# Altium schematic symbol library schematic_components.SCHLIB: 11 symbols
Pins are listed as number, name and electrical type; pins without a type are passive.

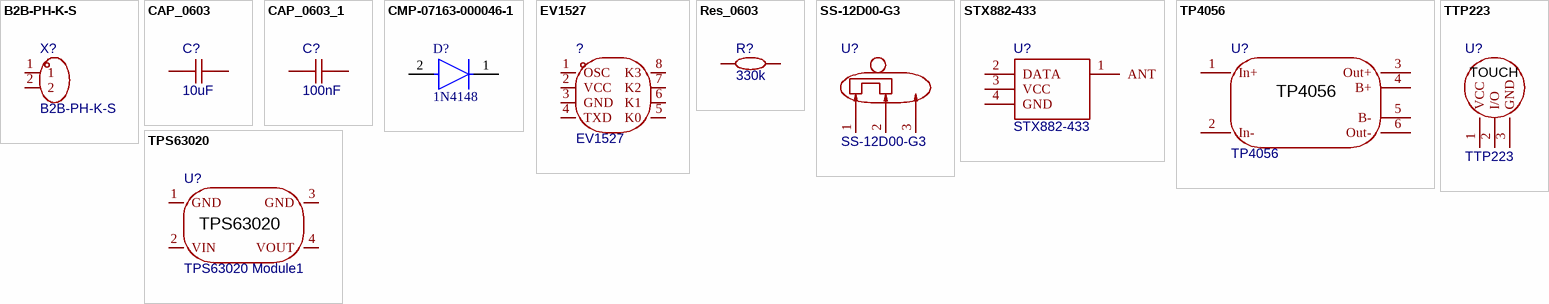
[diagram p0: symbols B2B-PH-K-S to TTP223]

## B2B-PH-K-S
designator X?
Pins Structure:1x2P Pitch:2mm Mounting Style:Direct Insert Reference Series:PH Number of Pins:2P Number of Rows:1 Number of PINs Per Row:2 Row Spacing:- Current Rating (Max):2A Contact Material:Brass Contact Plating:Tin Operating Temperature Range:-25℃~+8; Manufacturer: JST; AddInBom: yes; ModelId: 5cc63648eb1041ff813a836ee0942c91ÂŽ0819f05c4eef4c71ace90d822a990e87; ModelName: CONN-TH_PH2.00-LI-2P; ModelTransform: 236.25937,181.102,0,180,0,0,0,23.622,-137.795; Pins Structure: 1x2P; Pitch: 2mm; Reference Series: PH; Number of PINs Per Row: 2; Current Rating (Max): 2A; Rated Voltage (Max): 100V; Plastic Material: PA66; Flame Retardant Rating: UL94V-0; Supplementary Features: K-leg punch; Z-Height of the Board: 6mm; X-Length of Bottom Edge on Board (Spacing Line): 5.9mm; Y-Width of Bottom Edge on Board: 4.5mm; Symbol: B2B-PH-K-S; Device: B2B-PH-K-S; LCSC Part Name: 1x2P 间距:2mm 直插 系列:PH; SupplierPart: C20504437; ManufacturerPart: B2B-PH-K-S; Supplier Footprint: 插件,P=2mm; JLCPCB Part Class: Extended Part; Datasheet: https://atta.szlcsc.com/upload/public/pdf/source/20181010/C265101_22107ACC4D8714694FDA2DD97145FA81.pdf; Supplier: LCSC; ConvertToPcb: yes; FootprintName: CONN-TH_B2B-PH-K-S; Mounting Style: Direct Insert; Number of Pins: 2P; Number of Rows: 1; Row Spacing: -; Contact Material: Brass; Contact Plating: Tin; Operating Temperature Range: -25℃~+85℃; Colour: White
footprint CONN-TH_B2B-PH-K-S
pins: 1, 2

## CAP_0603
designator C?, comment 10uF
Symbol: CAP_OLD; Device: CAP_0603; ConvertToPcb: yes; ModelId: 624118aa3cc7497086c383c2d72e0852ÂŽ0819f05c4eef4c71ace90d822a990e87; ModelName: C0603_L1.6-W0.8-H0.8; ModelTransform: 62.992,31.496,0,0,0,0,0,0,0; Value: 10uF; AddInBom: yes; Supplier Footprint: 0603; FootprintName: C0603
footprint C0603
pins: 1, 2

## CAP_0603_1
designator C?, comment 100nF
Symbol: CAP_OLD; Device: CAP_0603; ConvertToPcb: yes; ModelId: 624118aa3cc7497086c383c2d72e0852ÂŽ0819f05c4eef4c71ace90d822a990e87; ModelName: C0603_L1.6-W0.8-H0.8; ModelTransform: 62.992,31.496,0,0,0,0,0,0,0; AddInBom: yes; Supplier Footprint: 0603; FootprintName: C0603; Value: 100nF
footprint C0603
pins: 1, 2

## CMP-07163-000046-1
designator D?, comment 1N4148
DIODE GEN PURP 100V 200MA DO35; Forward Voltage: 1V; Max Power Dissipation: 500mW; Max Reverse Current: 5uA; Forward Current: 300mA; Current: 4A; Reverse Recovery Time: 4ns; Element Configuration: Single; Outside Diameter: 1.85mm; Capacitance: 4pF; Polarity: Standard; Max Forward Surge Current (Ifsm): 1A; Reverse Voltage: 100V; Output Current: 200mA; Average Rectified Current: 200mA; Diameter: 1.91mm; Max Repetitive Reverse Voltage (Vrrm): 100V; Current Rating: 200mA; Case/Package: DO-35; Lead Free: Lead Free; Number of Pins: 2; Recovery Time: 4ns; Packaging: Bulk; Contact Plating: Tin; Voltage: 100V; Mount: Through Hole; Max Surge Current: 4A; Package Quantity: 2000; Width: 1.91mm; Max Reverse Voltage (DC): 100V; Length: 4.56mm; Radiation Hardening: No; Power Dissipation: 500mW; Voltage Rating (DC): 100V; Peak Non-Repetitive Surge Current: 4A; REACH SVHC: No SVHC; Height: 4.56mm; Max Operating Temperature: 175°C; Series: -; Weight: 0.01lb; Min Operating Temperature: -65°C
footprint FP-017AG-MFG
pins: 1 C, 2 A

## EV1527
designator ?
Symbol: EV1527_C2764439; AddInBom: yes; ModelId: 1637369e3845406d90068fbde42645d6ÂŽ0819f05c4eef4c71ace90d822a990e87; ModelName: SOP-8_L4.9-W3.9-H1.45-LS6.0-P1.27; ModelTransform: 236.22,189.751,0,0,0,0,-0.005,0.003,0; Device: EV1527; LCSC Part Name: EV1527; SupplierPart: C2764439; ManufacturerPart: EV1527; Supplier Footprint: SOP-8; JLCPCB Part Class: Extended Part; Supplier: LCSC; ConvertToPcb: yes; FootprintName: SOP-8_L4.9-W3.9-P1.27-LS6.0-TL
footprint SOP-8_L4.9-W3.9-P1.27-LS6.0-TL
pins: 1 OSC, 2 VCC, 3 GND, 4 TXD, 5 K0, 6 K1, 7 K2, 8 K3

## Res_0603
designator R?, comment 330k
Symbol: Res; Device: Res_0603; ConvertToPcb: yes; ModelId: 112863783b5b41f1b5254f87eedc7932ÂŽ0819f05c4eef4c71ace90d822a990e87; ModelName: R0603; ModelTransform: 31.8897,63.7794,0,90,0,0,0,0,0; Value: 330k; AddInBom: yes; Supplier Footprint: 0603; FootprintName: R0603
footprint R0603
pins: 1, 2

## SS-12D00-G3
designator U?
Circuit:SPDT Actuator Style:Rectangular Columnar Termination Style:PC Pin Length:8.8mm Width:3.9mm Switch Height:7.2mm Mounting Type:Through Hole Actuator Color:Black Operating Temperature:-35℃~+75℃ Operating Temperature:-35℃~+75℃; Manufacturer: SOFNG(硕方); AddInBom: yes; ModelId: 73abde54055d465790e8480c42fb2657ÂŽ0819f05c4eef4c71ace90d822a990e87; ModelName: SW-TH_3P-L8.8-W3.9-P2.50_SS12D00G3; ModelTransform: 346.495,153.54304,0,0,0,0,0,0,-102.362; Circuit: SPDT; Switch Height: 7.2mm; Actuator Color: Black; Symbol: SS-12D00-G3; Device: SS-12D00-G3; LCSC Part Name: 大型拨动开关; SupplierPart: C22355741; ManufacturerPart: SS-12D00-G3; Supplier Footprint: 插件-3P,8.8x3.9mm; JLCPCB Part Class: Extended Part; Datasheet: https://item.szlcsc.com/datasheet/SS-12D00-G3/23787622.html; Supplier: LCSC; ConvertToPcb: yes; FootprintName: SW-TH_3P-L8.8-W3.9-P2.50_SS12D00G3; Actuator Style: Rectangular Columnar; Termination Style: PC Pin; Length: 8.8mm; Width: 3.9mm; Mounting Type: Through Hole; Operating Temperature: -35℃~+75℃
footprint SW-TH_3P-L8.8-W3.9-P2.50_SS12D00G3
pins: 1, 2, 3

## STX882-433
designator U?
NiceRF STX882 433.92MHz ASK/OOK transmitter, 12.00x15.20mm, 3x2.54mm header + corner ANT pad; Symbol: STX882_NiceRF; ModelTransform: 0, 0, 0, 0, 0, 0, 0, 0, 0; AddInBom: yes; Device: STX882-433; ConvertToPcb: yes; FootprintName: STX882_NiceRF_12x15.2
footprint STX882_NiceRF_12x15.2
pins: 1 ANT, 2 DATA, 3 VCC (power), 4 GND (power)

## TP4056
designator U?
ManufacturerPart: TP4056 Lithium Battery Charger Module; AddInBom: yes; ModelId: e423d71e48284fa8aca64bd540eddcc7ÂŽ12eb6a14b26044868d603fa342c20fc9; ModelTransform: 1123.969599391241,677.16402,166.0550894347883,0,0,0,519.68504,330.70866,0; Symbol: TP4056; Device: TP4056; ConvertToPcb: yes; FootprintName: BATTMODULE; ModelName: TP4056
footprint BATTMODULE
pins: 1 In+, 2 In-, 3 Out+, 4 B+, 5 B-, 6 Out-

## TPS63020
designator U?, comment TPS63020 Module1
TPS63020 (Buck-Boost); AddInBom: yes; Symbol: TPS63020; Device: TPS63020; ConvertToPcb: yes; FootprintName: TPS63020 MODULE AIOT
footprint TPS63020 MODULE AIOT
pins: 1 GND, 2 VIN, 3 GND, 4 VOUT

## TTP223
designator U?
AddInBom: yes; ModelId: d48ae1b8fed1494d82694b8c5cf2b6f8ÂŽ0819f05c4eef4c71ace90d822a990e87; ModelName: COMM-TH_L15.0-W11.0_TTP223; ModelTransform: 590.54,433.06,295.27,90,0,0,0,0,0; Symbol: TTP223; Device: TTP223; ConvertToPcb: yes; FootprintName: TTP223
footprint TTP223
pins: 1 VCC, 2 I/O, 3 GND
text: TOUCH